# EAGLE library part IC_MAX31855 (library untitled)
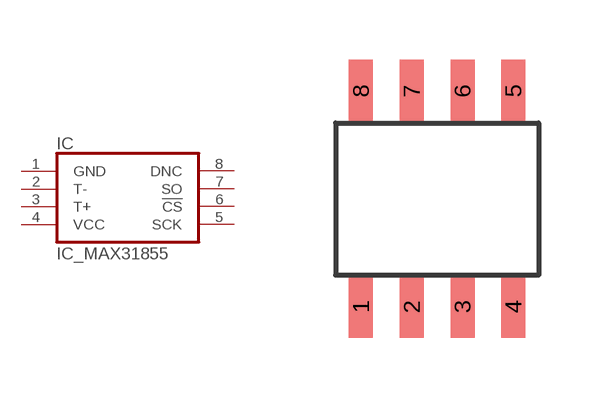
[diagram p14: symbol with the pads of SO-8; footprint SO-8]

Designator prefix IC

## IC_MAX31855-SO-8  [SO-8]
1  GND  pwr
2  T-  in
3  T+  in
4  VCC  pwr
5  SCK  in
6  !CS  in
7  SO  out
8  DNC  nc

## Footprint SO-8 (pad centres in mm)
smd 0.6 x 1.55: 1 -1.905,-2.69; 2 -0.635,-2.69; 3 0.635,-2.69; 4 1.905,-2.69; 5 1.905,2.71; 6 0.635,2.71; 7 -0.635,2.71; 8 -1.905,2.71